# Altium footprint library Capacitors_rus.PCBLIB: 349 footprints (part 9 of 22)
Each footprint in its own frame and in the unit in brackets; x right, y up, seen from the top. Pads: shape width x height; smd on the part's side, far side on the other; paste and mask are expansions set on the pad; w line width, h text height; cw(c..) or ccw(c..) is an arc to the next point about the centre after c.
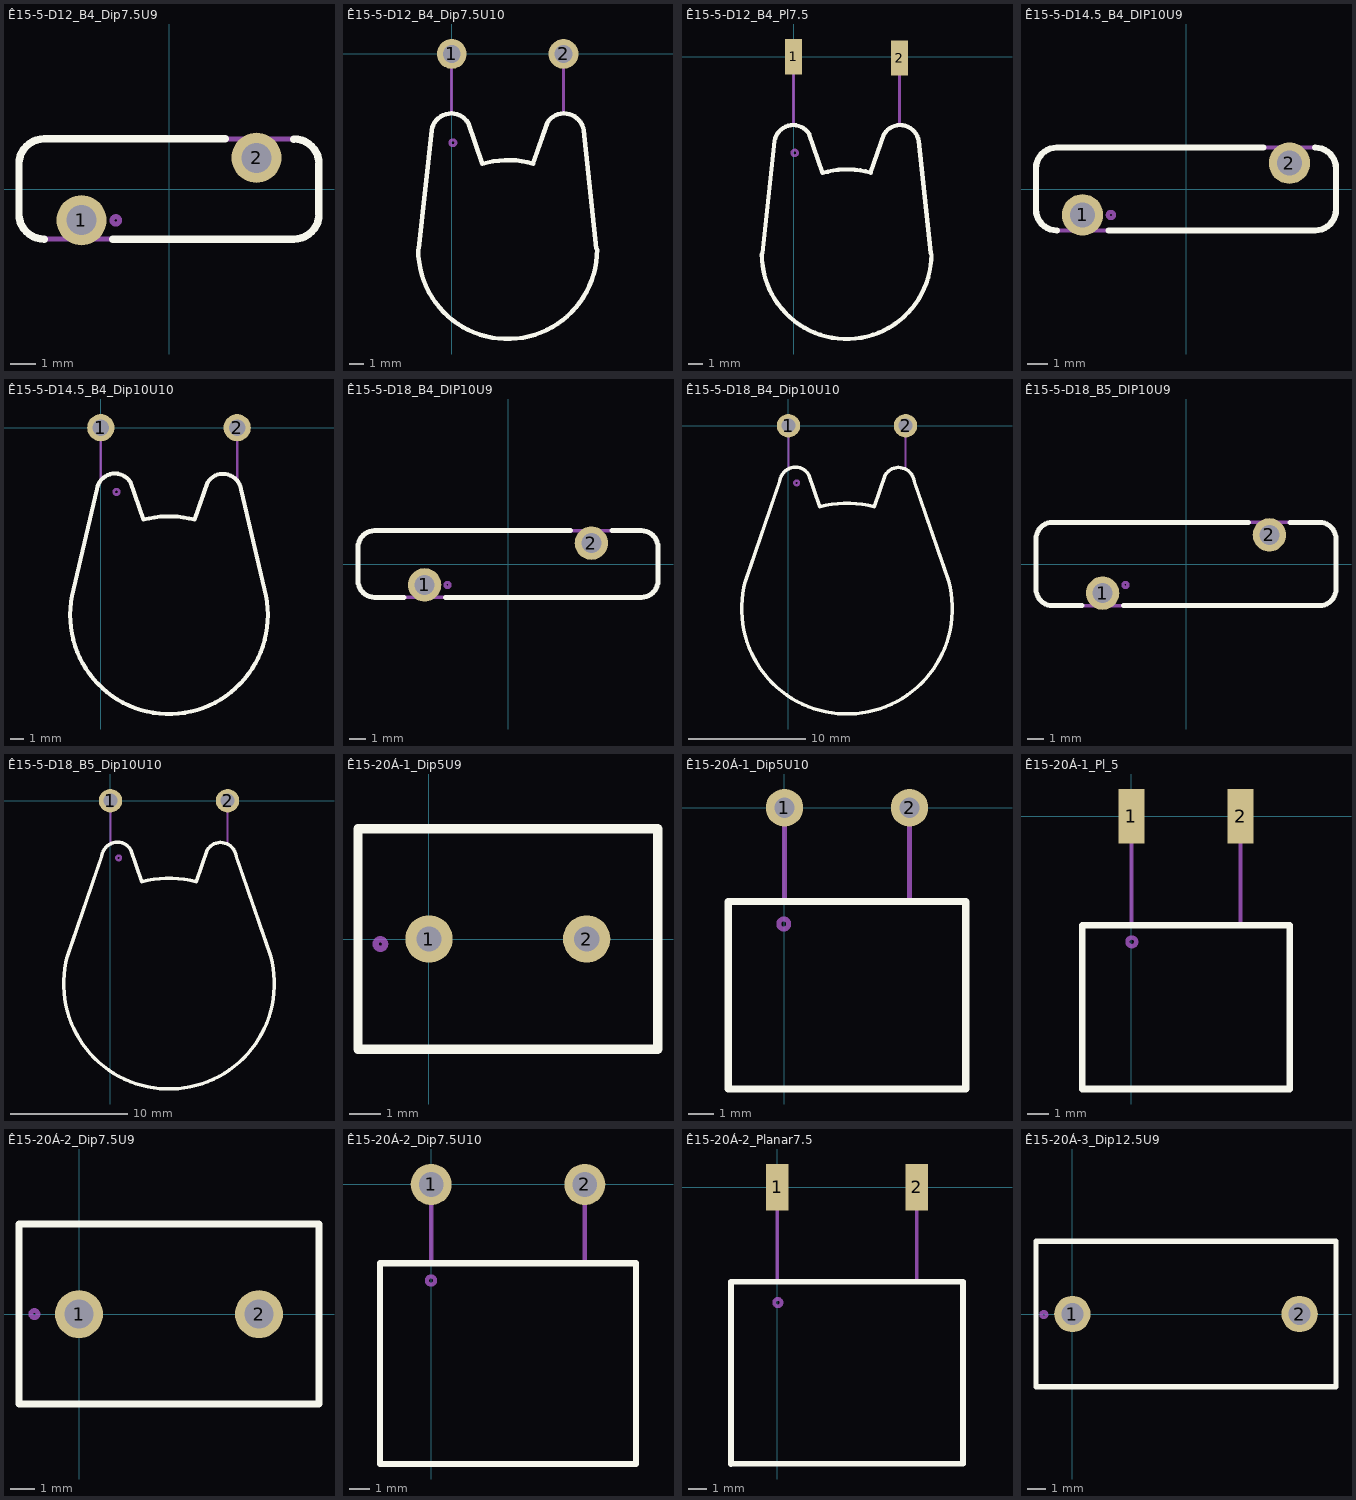
[diagram p8: the footprints below, top view; thin cyan lines are the x and y axes]

## Ê15-5-D12_B4_Dip7.5U9 [mm]
height 18
pads (2):
  round 2 hole 1.2: 1(-3.5,-1.25) 2(3.5,1.25)
Top Overlay:
  lines w0.3: -5,-2 cw(c-5,-1) -6,-1 -6,1 cw(c-5,1) -5,2 2.25,2 ; -2.25,-2 5,-2 ccw(c5,-1) 6,-1 6,1 ccw(c5,1) 5,2
Mechanical 1:
  circle w0.2: c-2.13,-1.255 r0.15
  lines w0.2: -6,-1 ccw(c-5,-1) -5,-2 5,-2 ccw(c5,-1) 6,-1 6,1 ccw(c5,1) 5,2 -5,2 ccw(c-5,1) -6,1 -6,-1
  text ".Designator" at -1.57,-0.35 h1.5

## Ê15-5-D12_B4_Dip7.5U10 [mm]
height 6
pads (2):
  round 2 hole 1.2: 1(0,0) 2(7.5,0)
Top Overlay:
  lines w0.3: -2.25,-13.125 ccw(c3.75,-13.125) 9.75,-13.125 ; -2.2,-13.05 -1.35,-5.125 cw(c-0.034,-5.322) 1.1,-4.625 2.05,-7.375 ; 2.056,-7.384 cw(c3.8,-13.125) 5.454,-7.357 ; 5.45,-7.35 6.4,-4.625 cw(c7.534,-5.322) 8.85,-5.125 9.7,-13.05
Mechanical 1:
  circle w0.2: c0.075,-5.96 r0.2
  lines w0.2: -2.25,-13.125 ccw(c3.75,-13.125) 9.75,-13.125 ; -2.2,-13.05 -1.35,-5.125 cw(c-0.034,-5.322) 1.1,-4.625 2.05,-7.375 ; 0,-4 0,0 ; 2.046,-7.372 cw(c3.75,-13.125) 5.454,-7.372 ; 5.45,-7.35 6.4,-4.625 cw(c7.534,-5.322) 8.85,-5.125 9.7,-13.05 ; 7.5,-4 7.5,0
  text ".Designator" at 1.18,-12.85 h1.5

## Ê15-5-D12_B4_Pl7.5 [mm]
height 6
pads (2):
  rect 1.2x2.5 smd: 1(0,0) 2(7.5,-0.1)
Top Overlay:
  lines w0.3: -2.25,-13.975 ccw(c3.75,-13.975) 9.75,-13.975 ; -2.2,-13.9 -1.35,-5.975 cw(c-0.034,-6.172) 1.1,-5.475 2.05,-8.225 ; 2.056,-8.234 cw(c3.8,-13.975) 5.454,-8.207 ; 5.45,-8.2 6.4,-5.475 cw(c7.534,-6.172) 8.85,-5.975 9.7,-13.9
Mechanical 1:
  circle w0.2: c0.075,-6.81 r0.2
  lines w0.2: -2.25,-13.975 ccw(c3.75,-13.975) 9.75,-13.975 ; -2.2,-13.9 -1.35,-5.975 cw(c-0.034,-6.172) 1.1,-5.475 2.05,-8.225 ; 0,-4.825 0,0.525 ; 2.046,-8.222 cw(c3.75,-13.975) 5.454,-8.222 ; 5.45,-8.2 6.4,-5.475 cw(c7.534,-6.172) 8.85,-5.975 9.7,-13.9 ; 7.5,-4.825 7.5,0.525
  text ".Designator" at 2.18,-13.6 h1.5

## Ê15-5-D14.5_B4_DIP10U9 [mm]
height 20.5
pads (2):
  round 2 hole 1.2: 1(-5,-1.25) 2(5,1.25)
Top Overlay:
  lines w0.3: -6.25,-2 cw(c-6.25,-1) -7.25,-1 -7.25,1 cw(c-6.25,1) -6.25,2 3.75,2 ; -3.75,-2 6.25,-2 ccw(c6.25,-1) 7.25,-1 7.25,1 ccw(c6.25,1) 6.25,2
Mechanical 1:
  circle w0.2: c-3.63,-1.255 r0.15
  lines w0.2: -7.25,-1 ccw(c-6.25,-1) -6.25,-2 6.25,-2 ccw(c6.25,-1) 7.25,-1 7.25,1 ccw(c6.25,1) 6.25,2 -6.25,2 ccw(c-6.25,1) -7.25,1 -7.25,-1
  text ".Designator" at -1.57,-0.35 h1.5

## Ê15-5-D14.5_B4_Dip10U10 [mm]
height 6
pads (2):
  round 2 hole 1.2: 1(0,0) 2(10,0)
Top Overlay:
  lines w0.3: -2.003,-11.874 ccw(c5,-13.75) 12.003,-11.874 ; -2,-11.875 -0.275,-4.5 cw(c1.041,-4.697) 2.175,-4 3.125,-6.75 ; 3.124,-6.747 cw(c5,-13.75) 6.876,-6.747 ; 6.875,-6.75 7.825,-4.025 cw(c8.959,-4.722) 10.275,-4.525 12,-11.875
Mechanical 1:
  circle w0.2: c1.15,-4.71 r0.2
  lines w0.2: -2.003,-11.874 ccw(c5,-13.75) 12.003,-11.874 ; -2,-11.875 -0.275,-4.5 cw(c1.041,-4.697) 2.175,-4 3.125,-6.75 ; 0,-3.85 0,0 ; 3.124,-6.747 cw(c5,-13.75) 6.876,-6.747 ; 6.875,-6.75 7.825,-4.025 cw(c8.959,-4.722) 10.275,-4.525 12,-11.875 ; 10,-3.85 10,0
  text ".Designator" at 2.93,-13.85 h1.5

## Ê15-5-D18_B4_DIP10U9 [mm]
height 24
pads (2):
  round 2 hole 1.2: 1(-5,-1.25) 2(5,1.25)
Top Overlay:
  lines w0.3: -6.25,-2 -8,-2 cw(c-8,-1) -9,-1 -9,1 cw(c-8,1) -8,2 3.75,2 ; -3.75,-2 8,-2 ccw(c8,-1) 9,-1 9,1 ccw(c8,1) 8,2 6.25,2
Mechanical 1:
  circle w0.2: c-3.63,-1.255 r0.15
  lines w0.2: -9,-1 ccw(c-8,-1) -8,-2 8,-2 ccw(c8,-1) 9,-1 9,1 ccw(c8,1) 8,2 -8,2 ccw(c-8,1) -9,1 -9,-1
  text ".Designator" at -1.82,-0.35 h1.5

## Ê15-5-D18_B4_Dip10U10 [mm]
height 6
pads (2):
  round 2 hole 1.2: 1(0,0) 2(10,0)
Top Overlay:
  lines w0.3: -3.7,-13.325 -0.725,-4.675 cw(c0.591,-4.872) 1.725,-4.175 2.675,-6.925 ; -3.693,-13.296 ccw(c5,-15.625) 13.693,-13.296 ; 2.671,-6.932 cw(c5,-15.625) 7.329,-6.932 ; 7.325,-6.925 8.275,-4.2 cw(c9.409,-4.897) 10.725,-4.7 13.7,-13.3
Mechanical 1:
  circle w0.2: c0.7,-4.885 r0.2
  lines w0.2: -3.7,-13.3 -0.725,-4.675 cw(c0.591,-4.872) 1.725,-4.175 2.675,-6.925 ; -3.693,-13.296 ccw(c5,-15.625) 13.693,-13.296 ; 0,-3.675 0,0 ; 2.671,-6.932 cw(c5,-15.625) 7.329,-6.932 ; 7.325,-6.925 8.275,-4.2 cw(c9.409,-4.897) 10.725,-4.7 13.7,-13.3 ; 10,-3.7 10,0
  text ".Designator" at 2.68,-16.1 h1.5

## Ê15-5-D18_B5_DIP10U9 [mm]
height 24
pads (2):
  round 2 hole 1.2: 1(-5,-1.75) 2(5,1.75)
Top Overlay:
  lines w0.3: -6.25,-2.5 -8,-2.5 cw(c-8,-1.5) -9,-1.5 -9,1.5 cw(c-8,1.5) -8,2.5 3.75,2.5 ; -3.75,-2.5 8,-2.5 ccw(c8,-1.5) 9,-1.5 9,1.5 ccw(c8,1.5) 8,2.5 6.25,2.5
Mechanical 1:
  circle w0.2: c-3.63,-1.255 r0.15
  lines w0.2: -9,-1.5 ccw(c-8,-1.5) -8,-2.5 8,-2.5 ccw(c8,-1.5) 9,-1.5 9,1.5 ccw(c8,1.5) 8,2.5 -8,2.5 ccw(c-8,1.5) -9,1.5 -9,-1.5
  text ".Designator" at -1.32,-0.35 h1.5

## Ê15-5-D18_B5_Dip10U10 [mm]
height 7
pads (2):
  round 2 hole 1.2: 1(0,0) 2(10,0)
Top Overlay:
  lines w0.3: -3.7,-13.325 -0.725,-4.675 cw(c0.591,-4.872) 1.725,-4.175 2.675,-6.925 ; -3.693,-13.296 ccw(c5,-15.625) 13.693,-13.296 ; 2.671,-6.932 cw(c5,-15.625) 7.329,-6.932 ; 7.325,-6.925 8.275,-4.2 cw(c9.409,-4.897) 10.725,-4.7 13.7,-13.3
Mechanical 1:
  circle w0.2: c0.7,-4.885 r0.2
  lines w0.2: -3.7,-13.3 -0.725,-4.675 cw(c0.591,-4.872) 1.725,-4.175 2.675,-6.925 ; -3.693,-13.296 ccw(c5,-15.625) 13.693,-13.296 ; 0,-3.675 0,0 ; 2.671,-6.932 cw(c5,-15.625) 7.329,-6.932 ; 7.325,-6.925 8.275,-4.2 cw(c9.409,-4.897) 10.725,-4.7 13.7,-13.3 ; 10,-3.7 10,0
  text ".Designator" at 2.68,-15.6 h1.5

## Ê15-20Á-1_Dip5U9 [mm]
pads (2):
  round 1.5 hole 0.8: 1(0,0) 2(5,0)
Top Overlay:
  lines w0.3: -2.25,-3.5 -2.25,3.5 7.25,3.5 7.25,-3.5 -2.25,-3.5
Mechanical 1:
  circle w0.2: c-1.54,-0.16 r0.15
  lines w0.2: 7.25,3.5 7.25,-3.5 -2.25,-3.5 -2.25,3.5 7.26,3.5
  text ".Designator" at 0.93,-0.35 h1.5

## Ê15-20Á-1_Dip5U10 [mm]
pads (2):
  round 1.5 hole 0.8: 1(0,0) 2(5,0)
Top Overlay:
  lines w0.3: -2.25,-11.25 7.25,-11.25 7.25,-3.75 -2.25,-3.75 -2.25,-11.25
Mechanical 1:
  circle w0.2: c-0.03,-4.65 r0.2
  lines w0.2: 0,-3.77 0,0 ; 5,-3.77 5,0 ; -2.25,-11.25 7.25,-11.25 7.25,-3.75 -2.25,-3.75 -2.25,-11.25
  text ".Designator" at 0.13,-8.15 h1.5

## Ê15-20Á-1_Pl_5 [mm]
pads (2):
  rect 1.2x2.5 smd: 1(0,0) 2(5,0)
Top Overlay:
  lines w0.3: -2.25,-12.5 7.25,-12.5 7.25,-5 -2.25,-5 -2.25,-12.5
Mechanical 1:
  circle w0.2: c0.015,-5.755 r0.2
  lines w0.2: 0,-5.02 0,0 ; 5,-5.02 5,0 ; -2.25,-12.5 7.25,-12.5 7.25,-5 -2.25,-5 -2.25,-12.5
  text ".Designator" at 0.63,-9.05 h1.5

## Ê15-20Á-2_Dip7.5U9 [mm]
pads (2):
  round 2 hole 1.2: 1(0,0) 2(7.5,0)
Top Overlay:
  lines w0.3: -2.5,-3.75 10,-3.75 10,3.75 -2.5,3.75 -2.5,-3.75
Mechanical 1:
  circle w0.2: c-1.86,0 r0.15
  lines w0.2: -2.5,3.75 -2.5,-3.75 10,-3.75 10,3.75 -2.5,3.76
  text ".Designator" at 1.78,-0.35 h1.5

## Ê15-20Á-2_Dip7.5U10 [mm]
pads (2):
  round 2 hole 1.2: 1(0,0) 2(7.5,0)
Top Overlay:
  lines w0.3: -2.5,-13.65 -2.5,-3.85 10,-3.85 10,-13.65 -2.5,-13.65
Mechanical 1:
  circle w0.2: c-0.01,-4.69 r0.2
  lines w0.2: 0,-3.87 0,0 ; 7.5,-3.87 7.5,0 ; -2.5,-13.65 -2.5,-3.85 10,-3.85 10,-13.65 -2.5,-13.65
  text ".Designator" at 0.83,-9.5 h1.5

## Ê15-20Á-2_Planar7.5 [mm]
pads (2):
  rect 1.2x2.5 smd: 1(0,0) 2(7.5,0)
Top Overlay:
  lines w0.3: -2.5,-14.91 10,-14.9 10,-5.1 -2.5,-5.1 -2.5,-14.9
Mechanical 1:
  circle w0.2: c0.025,-6.215 r0.2
  lines w0.2: 0,-5.12 0,0 ; 7.5,-5.12 7.5,0 ; -2.5,-14.9 -2.5,-5.1 10,-5.1 10,-14.9 -2.5,-14.9
  text ".Designator" at 1.23,-10.2 h1.5

## Ê15-20Á-3_Dip12.5U9 [mm]
pads (2):
  round 2 hole 1.2: 1(0,0) 2(12.5,0)
Top Overlay:
  lines w0.3: -2,-4 -2,4 14.5,4 14.5,-4 -2,-4
Mechanical 1:
  circle w0.2: c-1.57,-0.03 r0.15
  lines w0.2: -2,-4 -2,4 14.5,4 14.5,-4 -2,-4
  text ".Designator" at 3.93,-0.35 h1.5